# EAGLE library part E-L6258E (library IC_Power-Management)
PWM controlled high current DMOS universal motor driver Datasheet <https://www.st.com/resource/en/datasheet/l6258e.pdf>
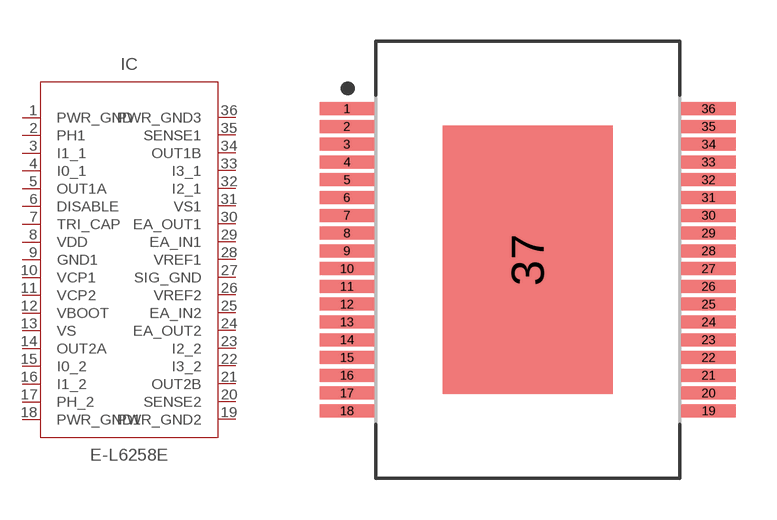
[diagram p12: symbol with the pads of SOP65P1420X360-37T620X980N; footprint SOP65P1420X360-37T620X980N]

Designator prefix IC

## E-L6258EPOWER_SO-36 (CATEGORY: IC_Power-Management; MANUFACTURER: ST Microelectronics; MPN: E-L6258E; PART_STATUS: Active; ROHS_COMPLIANT: RoHS3 Compliant; SUB-CATEGORY: Driver; THERMALLOSS: 3W)  [SOP65P1420X360-37T620X980N]
1  PWR_GND  pwr
2  PH1
3  I1_1  in
4  I0_1  in
5  OUT1A
6  DISABLE  in
7  TRI_CAP
8  VDD
9  GND1  pwr
10  VCP1
11  VCP2
12  VBOOT  in
13  VS  pwr
14  OUT2A
15  I0_2  in
16  I1_2  in
17  PH_2
18  PWR_GND1  pwr
19  PWR_GND2  pwr
20  SENSE2
21  OUT2B
22  I3_2  in
23  I2_2  in
24  EA_OUT2  out
25  EA_IN2  in
26  VREF2  pwr
27  SIG_GND  pwr
28  VREF1  pwr
29  EA_IN1  in
30  EA_OUT1  out
31  VS1  pwr
32  I2_1  in
33  I3_1  in
34  OUT1B  out
35  SENSE1
36  PWR_GND3  pwr

## Footprint SOP65P1420X360-37T620X980N (pad centres in mm)
36-SOP, 0.65 mm pitch, 14.20 mm span, 15.90 X 11.00 X 3.60 mm body, 9.80 X 6.20 mm thermal pad 36-pin SOP package with 0.65 mm pitch, 14.20 mm span with body size 15.90 X 11.00 X 3.60 mm and thermal pad size 9.80 X 6.20 mm
smd 1.993 x 0.475: 1 -6.609,5.525; 2 -6.609,4.875; 3 -6.609,4.225; 4 -6.609,3.575; 5 -6.609,2.925; 6 -6.609,2.275; 7 -6.609,1.625; 8 -6.609,0.975; 9 -6.609,0.325; 10 -6.609,-0.325; 11 -6.609,-0.975; 12 -6.609,-1.625; 13 -6.609,-2.275; 14 -6.609,-2.925; 15 -6.609,-3.575; 16 -6.609,-4.225; 17 -6.609,-4.875; 18 -6.609,-5.525; 19 6.609,-5.525; 20 6.609,-4.875; 21 6.609,-4.225; 22 6.609,-3.575; 23 6.609,-2.925; 24 6.609,-2.275; 25 6.609,-1.625; 26 6.609,-0.975; 27 6.609,-0.325; 28 6.609,0.325; 29 6.609,0.975; 30 6.609,1.625; 31 6.609,2.275; 32 6.609,2.925; 33 6.609,3.575; 34 6.609,4.225; 35 6.609,4.875; 36 6.609,5.525
smd 6.2 x 9.8: 37 0,0